# Altium footprint library MB1137.PcbLib: 43 footprints (part 2 of 3)
Each footprint in its own frame and in the unit in brackets; x right, y up, seen from the top. Pads: shape width x height; smd on the part's side, far side on the other; paste and mask are expansions set on the pad; w line width, h text height; cw(c..) or ccw(c..) is an arc to the next point about the centre after c.
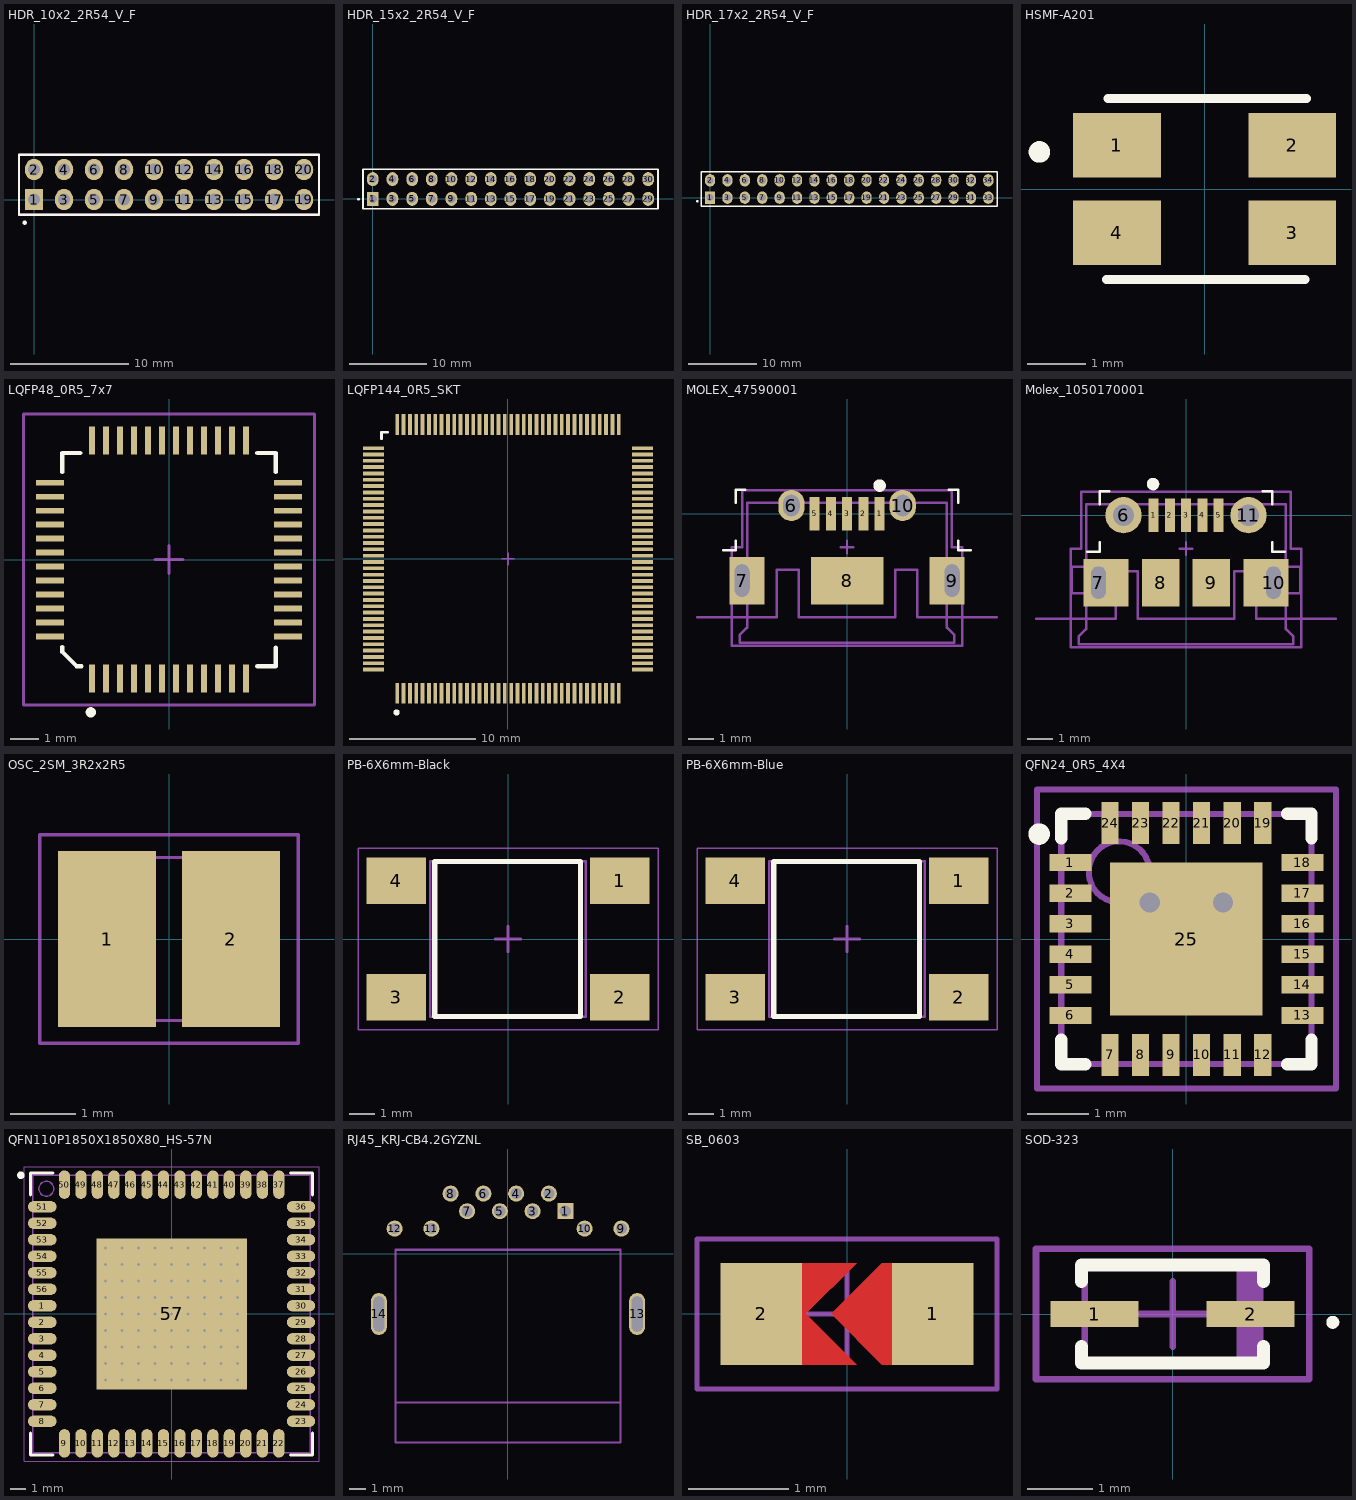
[diagram p1: the footprints below, top view; thin cyan lines are the x and y axes]

## HDR_10x2_2R54_V_F [mm] "Female Header, Pitch 2.54mm, 2x8 Position, Mated Height 6mm, Tail Length 3mm"
height 6
pads (20):
  rect 1.5x1.8 hole 1.02: 1(0,0)
  oval 1.5x1.8 hole 1.02: 2(0,2.54) 3(2.54,0) 4(2.54,2.54) 5(5.08,0) 6(5.08,2.54) 7(7.62,0) 8(7.62,2.54) 9(10.16,0) 10(10.16,2.54) 11(12.7,0) 12(12.7,2.54) 13(15.24,0) 14(15.24,2.54) 15(17.78,0) 16(17.78,2.54) 17(20.32,0) 18(20.32,2.54) 19(22.86,0) 20(22.86,2.54)
Top Overlay:
  circle w0.25: c-0.787,-1.96 r0.059
  lines w0.2: -1.27,-1.27 -1.27,3.81 24.13,3.81 24.13,-1.27 -1.27,-1.27
Mechanical 7:
  circle w0.2: c20.32,0 r0.684
  circle w0.2: c20.32,2.54 r0.684
  circle w0.2: c15.24,2.54 r0.684
  circle w0.2: c17.78,2.54 r0.684
  circle w0.2: c17.78,0 r0.684
  circle w0.2: c15.24,0 r0.684
  circle w0.2: c2.54,0 r0.684
  circle w0.2: c5.08,0 r0.684
  circle w0.2: c7.62,0 r0.684
  circle w0.2: c10.16,0 r0.684
  circle w0.2: c12.7,0 r0.684
  circle w0.2: c12.7,2.54 r0.684
  circle w0.2: c10.16,2.54 r0.684
  circle w0.2: c7.62,2.54 r0.684
  circle w0.2: c5.08,2.54 r0.684
  circle w0.2: c2.54,2.54 r0.684
  circle w0.2: c0,2.54 r0.684
  circle w0.2: c22.86,2.54 r0.684
  circle w0.2: c22.86,0 r0.684
  lines w0.2: -1.27,-1.27 -1.27,3.81 24.13,3.81 24.13,-1.27 -1.27,-1.27 ; -0.635,-0.635 -0.635,0.635 0.635,0.635 0.635,-0.635 -0.635,-0.635
3D body: height 8.64, standoff 0, extent 19.052,-1.27 21.592,1.27
3D body: height 2.54, standoff -10, extent 19.971,-0.349 20.669,0.349
3D body: height 8.64, standoff 0, extent 19.052,1.27 21.592,3.81
3D body: height 2.54, standoff -10, extent 19.971,2.191 20.669,2.889
3D body: height 2.54, standoff -10, extent 14.891,-0.349 15.589,0.349
3D body: height 8.64, standoff 0, extent 13.972,-1.27 16.512,1.27
3D body: height 2.54, standoff -10, extent 14.891,2.191 15.589,2.889
3D body: height 8.64, standoff 0, extent 13.972,1.27 16.512,3.81
3D body: height 2.54, standoff -10, extent 17.431,2.191 18.129,2.889
3D body: height 8.64, standoff 0, extent 16.512,1.27 19.052,3.81
3D body: height 2.54, standoff -10, extent 17.431,-0.349 18.129,0.349
3D body: height 8.64, standoff 0, extent 16.512,-1.27 19.052,1.27
3D body: height 8.64, standoff 0, extent 11.432,-1.27 13.972,1.27
3D body: height 2.54, standoff -10, extent 12.351,-0.349 13.049,0.349
3D body: height 8.64, standoff 0, extent 11.432,1.27 13.972,3.81
3D body: height 2.54, standoff -10, extent 12.351,2.191 13.049,2.889
3D body: height 8.64, standoff 0, extent 8.892,1.27 11.432,3.81
3D body: height 2.54, standoff -10, extent 9.811,2.191 10.509,2.889
3D body: height 8.64, standoff 0, extent 8.892,-1.27 11.432,1.27
3D body: height 2.54, standoff -10, extent 9.811,-0.349 10.509,0.349
3D body: height 8.64, standoff 0, extent 6.352,-1.27 8.892,1.27
3D body: height 2.54, standoff -10, extent 7.271,-0.349 7.969,0.349
3D body: height 8.64, standoff 0, extent 6.352,1.27 8.892,3.81
3D body: height 2.54, standoff -10, extent 7.271,2.191 7.969,2.889
3D body: height 8.64, standoff 0, extent 3.812,-1.27 6.352,1.27
3D body: height 2.54, standoff -10, extent 4.731,-0.349 5.429,0.349
3D body: height 8.64, standoff 0, extent 3.812,1.27 6.352,3.81
3D body: height 2.54, standoff -10, extent 4.731,2.191 5.429,2.889
3D body: height 8.64, standoff 0, extent 1.272,-1.27 3.812,1.27
3D body: height 2.54, standoff -10, extent 2.191,-0.349 2.889,0.349
3D body: height 8.64, standoff 0, extent 1.272,1.27 3.812,3.81
3D body: height 2.54, standoff -10, extent 2.191,2.191 2.889,2.889
3D body: height 8.64, standoff 0, extent -1.268,1.27 1.272,3.81
3D body: height 2.54, standoff -10, extent -0.349,2.191 0.349,2.889
3D body: height 8.64, standoff 0, extent -1.268,-1.27 1.272,1.27
3D body: height 2.54, standoff -10, extent -0.349,-0.349 0.349,0.349
3D body: height 2.54, standoff -10, extent 22.511,2.191 23.209,2.889
3D body: height 8.64, standoff 0, extent 21.592,1.27 24.132,3.81
3D body: height 2.54, standoff -10, extent 22.511,-0.349 23.209,0.349
3D body: height 8.64, standoff 0, extent 21.592,-1.27 24.132,1.27

## HDR_15x2_2R54_V_F [mm] "Female Header, Pitch 2.54mm, 2x15 Position, Mated Height 6mm, Tail Length 3mm"
height 6
pads (30):
  rect 1.5x1.8 hole 1.02: 1(0,0)
  oval 1.5x1.8 hole 1.02: 2(0,2.54) 3(2.54,0) 4(2.54,2.54) 5(5.08,0) 6(5.08,2.54) 7(7.62,0) 8(7.62,2.54) 9(10.16,0) 10(10.16,2.54) 11(12.7,0) 12(12.7,2.54) 13(15.24,0) 14(15.24,2.54) 15(17.78,0) 16(17.78,2.54) 17(20.32,0) 18(20.32,2.54) 19(22.86,0) 20(22.86,2.54) 21(25.4,0) 22(25.4,2.54) 23(27.94,0) 24(27.94,2.54) 25(30.48,0) 26(30.48,2.54) 27(33.02,0) 28(33.02,2.54) 29(35.56,0) 30(35.56,2.54)
Top Overlay:
  circle w0.25: c-1.854,-0.059 r0.059
  lines w0.2: -1.27,-1.27 -1.27,3.81 36.83,3.81 36.83,-1.27 -1.27,-1.27
3D body: height 8.64, standoff 0, extent 34.292,-1.27 36.832,1.27
3D body: height 2.54, standoff -10, extent 35.211,-0.349 35.909,0.349
3D body: height 8.64, standoff 0, extent 34.292,1.27 36.832,3.81
3D body: height 2.54, standoff -10, extent 35.211,2.191 35.909,2.889
3D body: height 2.54, standoff -10, extent 25.051,2.191 25.749,2.889
3D body: height 8.64, standoff 0, extent 24.132,1.27 26.672,3.81
3D body: height 2.54, standoff -10, extent 25.051,-0.349 25.749,0.349
3D body: height 8.64, standoff 0, extent 24.132,-1.27 26.672,1.27
3D body: height 8.64, standoff 0, extent 29.212,-1.27 31.752,1.27
3D body: height 2.54, standoff -10, extent 30.131,-0.349 30.829,0.349
3D body: height 8.64, standoff 0, extent 29.212,1.27 31.752,3.81
3D body: height 2.54, standoff -10, extent 30.131,2.191 30.829,2.889
3D body: height 8.64, standoff 0, extent 26.672,1.27 29.212,3.81
3D body: height 2.54, standoff -10, extent 27.591,2.191 28.289,2.889
3D body: height 8.64, standoff 0, extent 26.672,-1.27 29.212,1.27
3D body: height 2.54, standoff -10, extent 27.591,-0.349 28.289,0.349
3D body: height 2.54, standoff -10, extent 32.671,2.191 33.369,2.889
3D body: height 8.64, standoff 0, extent 31.752,1.27 34.292,3.81
3D body: height 2.54, standoff -10, extent 32.671,-0.349 33.369,0.349
3D body: height 8.64, standoff 0, extent 31.752,-1.27 34.292,1.27
3D body: height 8.64, standoff 0, extent 19.052,-1.27 21.592,1.27
3D body: height 2.54, standoff -10, extent 19.971,-0.349 20.669,0.349
3D body: height 8.64, standoff 0, extent 19.052,1.27 21.592,3.81
3D body: height 2.54, standoff -10, extent 19.971,2.191 20.669,2.889
3D body: height 2.54, standoff -10, extent 14.891,-0.349 15.589,0.349
3D body: height 8.64, standoff 0, extent 13.972,-1.27 16.512,1.27
3D body: height 2.54, standoff -10, extent 14.891,2.191 15.589,2.889
3D body: height 8.64, standoff 0, extent 13.972,1.27 16.512,3.81
3D body: height 2.54, standoff -10, extent 17.431,2.191 18.129,2.889
3D body: height 8.64, standoff 0, extent 16.512,1.27 19.052,3.81
3D body: height 2.54, standoff -10, extent 17.431,-0.349 18.129,0.349
3D body: height 8.64, standoff 0, extent 16.512,-1.27 19.052,1.27
3D body: height 8.64, standoff 0, extent 11.432,-1.27 13.972,1.27
3D body: height 2.54, standoff -10, extent 12.351,-0.349 13.049,0.349
3D body: height 8.64, standoff 0, extent 11.432,1.27 13.972,3.81
3D body: height 2.54, standoff -10, extent 12.351,2.191 13.049,2.889
3D body: height 8.64, standoff 0, extent 8.892,1.27 11.432,3.81
3D body: height 2.54, standoff -10, extent 9.811,2.191 10.509,2.889
3D body: height 8.64, standoff 0, extent 8.892,-1.27 11.432,1.27
3D body: height 2.54, standoff -10, extent 9.811,-0.349 10.509,0.349
3D body: height 8.64, standoff 0, extent 6.352,-1.27 8.892,1.27
3D body: height 2.54, standoff -10, extent 7.271,-0.349 7.969,0.349
3D body: height 8.64, standoff 0, extent 6.352,1.27 8.892,3.81
3D body: height 2.54, standoff -10, extent 7.271,2.191 7.969,2.889
3D body: height 8.64, standoff 0, extent 3.812,-1.27 6.352,1.27
3D body: height 2.54, standoff -10, extent 4.731,-0.349 5.429,0.349
3D body: height 8.64, standoff 0, extent 3.812,1.27 6.352,3.81
3D body: height 2.54, standoff -10, extent 4.731,2.191 5.429,2.889
3D body: height 8.64, standoff 0, extent 1.272,-1.27 3.812,1.27
3D body: height 2.54, standoff -10, extent 2.191,-0.349 2.889,0.349
3D body: height 8.64, standoff 0, extent 1.272,1.27 3.812,3.81
3D body: height 2.54, standoff -10, extent 2.191,2.191 2.889,2.889
3D body: height 8.64, standoff 0, extent -1.268,1.27 1.272,3.81
3D body: height 2.54, standoff -10, extent -0.349,2.191 0.349,2.889
3D body: height 8.64, standoff 0, extent -1.268,-1.27 1.272,1.27
3D body: height 2.54, standoff -10, extent -0.349,-0.349 0.349,0.349
3D body: height 2.54, standoff -10, extent 22.511,2.191 23.209,2.889
3D body: height 8.64, standoff 0, extent 21.592,1.27 24.132,3.81
3D body: height 2.54, standoff -10, extent 22.511,-0.349 23.209,0.349
3D body: height 8.64, standoff 0, extent 21.592,-1.27 24.132,1.27

## HDR_17x2_2R54_V_F [mm] "Female Header, Pitch 2.54mm, 2x17 Position, Mated Height 6mm, Tail Length 3mm"
height 6
pads (34):
  rect 1.5x1.8 hole 1.02: 1(0,0)
  oval 1.5x1.8 hole 1.02: 2(0,2.54) 3(2.54,0) 4(2.54,2.54) 5(5.08,0) 6(5.08,2.54) 7(7.62,0) 8(7.62,2.54) 9(10.16,0) 10(10.16,2.54) 11(12.7,0) 12(12.7,2.54) 13(15.24,0) 14(15.24,2.54) 15(17.78,0) 16(17.78,2.54) 17(20.32,0) 18(20.32,2.54) 19(22.86,0) 20(22.86,2.54) 21(25.4,0) 22(25.4,2.54) 23(27.94,0) 24(27.94,2.54) 25(30.48,0) 26(30.48,2.54) 27(33.02,0) 28(33.02,2.54) 29(35.56,0) 30(35.56,2.54) 31(38.1,0) 32(38.1,2.54) 33(40.64,0) 34(40.64,2.54)
Top Overlay:
  circle w0.25: c-1.854,-0.516 r0.059
  lines w0.2: -1.27,-1.27 -1.27,3.81 41.91,3.81 41.91,-1.27 -1.27,-1.27
3D body: height 8.64, standoff 0, extent 34.292,-1.27 36.832,1.27
3D body: height 2.54, standoff -10, extent 35.211,-0.349 35.909,0.349
3D body: height 8.64, standoff 0, extent 34.292,1.27 36.832,3.81
3D body: height 2.54, standoff -10, extent 35.211,2.191 35.909,2.889
3D body: height 2.54, standoff -10, extent 25.051,2.191 25.749,2.889
3D body: height 8.64, standoff 0, extent 24.132,1.27 26.672,3.81
3D body: height 2.54, standoff -10, extent 25.051,-0.349 25.749,0.349
3D body: height 8.64, standoff 0, extent 24.132,-1.27 26.672,1.27
3D body: height 8.64, standoff 0, extent 29.212,-1.27 31.752,1.27
3D body: height 2.54, standoff -10, extent 30.131,-0.349 30.829,0.349
3D body: height 8.64, standoff 0, extent 29.212,1.27 31.752,3.81
3D body: height 2.54, standoff -10, extent 30.131,2.191 30.829,2.889
3D body: height 8.64, standoff 0, extent 26.672,1.27 29.212,3.81
3D body: height 2.54, standoff -10, extent 27.591,2.191 28.289,2.889
3D body: height 8.64, standoff 0, extent 26.672,-1.27 29.212,1.27
3D body: height 2.54, standoff -10, extent 27.591,-0.349 28.289,0.349
3D body: height 2.54, standoff -10, extent 32.671,2.191 33.369,2.889
3D body: height 8.64, standoff 0, extent 31.752,1.27 34.292,3.81
3D body: height 2.54, standoff -10, extent 32.671,-0.349 33.369,0.349
3D body: height 8.64, standoff 0, extent 31.752,-1.27 34.292,1.27
3D body: height 8.64, standoff 0, extent 19.052,-1.27 21.592,1.27
3D body: height 2.54, standoff -10, extent 19.971,-0.349 20.669,0.349
3D body: height 8.64, standoff 0, extent 19.052,1.27 21.592,3.81
3D body: height 2.54, standoff -10, extent 19.971,2.191 20.669,2.889
3D body: height 2.54, standoff -10, extent 14.891,-0.349 15.589,0.349
3D body: height 8.64, standoff 0, extent 13.972,-1.27 16.512,1.27
3D body: height 2.54, standoff -10, extent 14.891,2.191 15.589,2.889
3D body: height 8.64, standoff 0, extent 13.972,1.27 16.512,3.81
3D body: height 2.54, standoff -10, extent 17.431,2.191 18.129,2.889
3D body: height 8.64, standoff 0, extent 16.512,1.27 19.052,3.81
3D body: height 2.54, standoff -10, extent 17.431,-0.349 18.129,0.349
3D body: height 8.64, standoff 0, extent 16.512,-1.27 19.052,1.27
3D body: height 8.64, standoff 0, extent 11.432,-1.27 13.972,1.27
3D body: height 2.54, standoff -10, extent 12.351,-0.349 13.049,0.349
3D body: height 8.64, standoff 0, extent 11.432,1.27 13.972,3.81
3D body: height 2.54, standoff -10, extent 12.351,2.191 13.049,2.889
3D body: height 8.64, standoff 0, extent 8.892,1.27 11.432,3.81
3D body: height 2.54, standoff -10, extent 9.811,2.191 10.509,2.889
3D body: height 8.64, standoff 0, extent 8.892,-1.27 11.432,1.27
3D body: height 2.54, standoff -10, extent 9.811,-0.349 10.509,0.349
3D body: height 8.64, standoff 0, extent 6.352,-1.27 8.892,1.27
3D body: height 2.54, standoff -10, extent 7.271,-0.349 7.969,0.349
3D body: height 8.64, standoff 0, extent 6.352,1.27 8.892,3.81
3D body: height 2.54, standoff -10, extent 7.271,2.191 7.969,2.889
3D body: height 8.64, standoff 0, extent 3.812,-1.27 6.352,1.27
3D body: height 2.54, standoff -10, extent 4.731,-0.349 5.429,0.349
3D body: height 8.64, standoff 0, extent 3.812,1.27 6.352,3.81
3D body: height 2.54, standoff -10, extent 4.731,2.191 5.429,2.889
3D body: height 8.64, standoff 0, extent 1.272,-1.27 3.812,1.27
3D body: height 2.54, standoff -10, extent 2.191,-0.349 2.889,0.349
3D body: height 8.64, standoff 0, extent 1.272,1.27 3.812,3.81
3D body: height 2.54, standoff -10, extent 2.191,2.191 2.889,2.889
3D body: height 8.64, standoff 0, extent -1.268,1.27 1.272,3.81
3D body: height 2.54, standoff -10, extent -0.349,2.191 0.349,2.889
3D body: height 8.64, standoff 0, extent -1.268,-1.27 1.272,1.27
3D body: height 2.54, standoff -10, extent -0.349,-0.349 0.349,0.349
3D body: height 2.54, standoff -10, extent 22.511,2.191 23.209,2.889
3D body: height 8.64, standoff 0, extent 21.592,1.27 24.132,3.81
3D body: height 2.54, standoff -10, extent 22.511,-0.349 23.209,0.349
3D body: height 8.64, standoff 0, extent 21.592,-1.27 24.132,1.27
3D body: height 8.64, standoff 0, extent 36.832,-1.27 39.372,1.27
3D body: height 2.54, standoff -10, extent 37.751,-0.349 38.449,0.349
3D body: height 8.64, standoff 0, extent 36.832,1.27 39.372,3.81
3D body: height 2.54, standoff -10, extent 37.751,2.191 38.449,2.889
3D body: height 2.54, standoff -10, extent 40.291,2.191 40.989,2.889
3D body: height 8.64, standoff 0, extent 39.372,1.27 41.912,3.81
3D body: height 2.54, standoff -10, extent 40.291,-0.349 40.989,0.349
3D body: height 8.64, standoff 0, extent 39.372,-1.27 41.912,1.27

## HSMF-A201 [mm] "LED"
height 1.2
pads (4):
  rect 1.5x1.1 smd: 1(-1.5,0.75) 2(1.5,0.75) 3(1.5,-0.75) 4(-1.5,-0.75)
Top Overlay:
  circle w0.25: c-2.827,0.635 r0.059
  lines w0.152: -1.676,-1.549 1.724,-1.549 ; -1.651,1.549 1.749,1.549
3D body: height 1.2, standoff 0.1, extent -1.6,-1.4 1.6,1.4

## LQFP48_0R5_7x7 [mm] "Low & medium-density value line, advanced ARM-based 32-bit MCU"
height 1.6
pads (48):
  rect 0.2x1 smd: 1(-2.75,-4.25) 2(-2.25,-4.25) 3(-1.75,-4.25) 4(-1.25,-4.25) 5(-0.75,-4.25) 6(-0.25,-4.25) 7(0.25,-4.25) 8(0.75,-4.25) 9(1.25,-4.25) 10(1.75,-4.25) 11(2.25,-4.25) 12(2.75,-4.25) 25(2.75,4.25) 26(2.25,4.25) 27(1.75,4.25) 28(1.25,4.25) 29(0.75,4.25) 30(0.25,4.25) 31(-0.25,4.25) 32(-0.75,4.25) 33(-1.25,4.25) 34(-1.75,4.25) 35(-2.25,4.25) 36(-2.75,4.25)
  rect 1x0.2 smd: 13(4.25,-2.75) 14(4.25,-2.25) 15(4.25,-1.75) 16(4.25,-1.25) 17(4.25,-0.75) 18(4.25,-0.25) 19(4.25,0.25) 20(4.25,0.75) 21(4.25,1.25) 22(4.25,1.75) 23(4.25,2.25) 24(4.25,2.75) 37(-4.25,2.75) 38(-4.25,2.25) 39(-4.25,1.75) 40(-4.25,1.25) 41(-4.25,0.75) 42(-4.25,0.25) 43(-4.25,-0.25) 44(-4.25,-0.75) 45(-4.25,-1.25) 46(-4.25,-1.75) 47(-4.25,-2.25) 48(-4.25,-2.75)
Top Overlay:
  circle w0.25: c-2.792,-5.461 r0.059
  lines w0.152: -3.81,-3.124 -3.81,-3.302 -3.302,-3.81 -3.124,-3.81 ; -3.81,3.124 -3.81,3.81 -3.175,3.81 ; 3.15,-3.81 3.81,-3.81 3.81,-3.15 ; 3.15,3.81 3.81,3.81 3.81,3.124
Mechanical 15:
  lines w0.1: -0.5,0 0.5,0 ; 0,-0.5 0,0.5 ; -5.2,-5.2 -5.2,5.2 5.2,5.2 5.2,-5.2 -5.2,-5.2
3D body: height 1.6, standoff 0.15, extent -3.5,-3.5 3.5,3.5

## LQFP144_0R5_SKT [mm] "32-bit MCU ARM-based Cortex-M3 20 X 20mm, 0.5mm Pitch, 1.6mm Max thickness"
height 1.6
pads (144):
  rect 0.3x1.65 smd: 1(-8.75,-10.625) 2(-8.25,-10.625) 3(-7.75,-10.625) 4(-7.25,-10.625) 5(-6.75,-10.625) 6(-6.25,-10.625) 7(-5.75,-10.625) 8(-5.25,-10.625) 9(-4.75,-10.625) 10(-4.25,-10.625) 11(-3.75,-10.625) 12(-3.25,-10.625) 13(-2.75,-10.625) 14(-2.25,-10.625) 15(-1.75,-10.625) 16(-1.25,-10.625) 17(-0.75,-10.625) 18(-0.25,-10.625) 19(0.25,-10.625) 20(0.75,-10.625) 21(1.25,-10.625) 22(1.75,-10.625) 23(2.25,-10.625) 24(2.75,-10.625) 25(3.25,-10.625) 26(3.75,-10.625) 27(4.25,-10.625) 28(4.75,-10.625) 29(5.25,-10.625) 30(5.75,-10.625) 31(6.25,-10.625) 32(6.75,-10.625) 33(7.25,-10.625) 34(7.75,-10.625) 35(8.25,-10.625) 36(8.75,-10.625) 73(8.75,10.625) 74(8.25,10.625) 75(7.75,10.625) 76(7.25,10.625) 77(6.75,10.625) 78(6.25,10.625) 79(5.75,10.625) 80(5.25,10.625) 81(4.75,10.625) 82(4.25,10.625) 83(3.75,10.625) 84(3.25,10.625) 85(2.75,10.625) 86(2.25,10.625) 87(1.75,10.625) 88(1.25,10.625) 89(0.75,10.625) 90(0.25,10.625) 91(-0.25,10.625) 92(-0.75,10.625) 93(-1.25,10.625) 94(-1.75,10.625) 95(-2.25,10.625) 96(-2.75,10.625) 97(-3.25,10.625) 98(-3.75,10.625) 99(-4.25,10.625) 100(-4.75,10.625) 101(-5.25,10.625) 102(-5.75,10.625) 103(-6.25,10.625) 104(-6.75,10.625) 105(-7.25,10.625) 106(-7.75,10.625) 107(-8.25,10.625) 108(-8.75,10.625)
  rect 1.65x0.3 smd: 37(10.625,-8.75) 38(10.625,-8.25) 39(10.625,-7.75) 40(10.625,-7.25) 41(10.625,-6.75) 42(10.625,-6.25) 43(10.625,-5.75) 44(10.625,-5.25) 45(10.625,-4.75) 46(10.625,-4.25) 47(10.625,-3.75) 48(10.625,-3.25) 49(10.625,-2.75) 50(10.625,-2.25) 51(10.625,-1.75) 52(10.625,-1.25) 53(10.625,-0.75) 54(10.625,-0.25) 55(10.625,0.25) 56(10.625,0.75) 57(10.625,1.25) 58(10.625,1.75) 59(10.625,2.25) 60(10.625,2.75) 61(10.625,3.25) 62(10.625,3.75) 63(10.625,4.25) 64(10.625,4.75) 65(10.625,5.25) 66(10.625,5.75) 67(10.625,6.25) 68(10.625,6.75) 69(10.625,7.25) 70(10.625,7.75) 71(10.625,8.25) 72(10.625,8.75) 109(-10.625,8.75) 110(-10.625,8.25) 111(-10.625,7.75) 112(-10.625,7.25) 113(-10.625,6.75) 114(-10.625,6.25) 115(-10.625,5.75) 116(-10.625,5.25) 117(-10.625,4.75) 118(-10.625,4.25) 119(-10.625,3.75) 120(-10.625,3.25) 121(-10.625,2.75) 122(-10.625,2.25) 123(-10.625,1.75) 124(-10.625,1.25) 125(-10.625,0.75) 126(-10.625,0.25) 127(-10.625,-0.25) 128(-10.625,-0.75) 129(-10.625,-1.25) 130(-10.625,-1.75) 131(-10.625,-2.25) 132(-10.625,-2.75) 133(-10.625,-3.25) 134(-10.625,-3.75) 135(-10.625,-4.25) 136(-10.625,-4.75) 137(-10.625,-5.25) 138(-10.625,-5.75) 139(-10.625,-6.25) 140(-10.625,-6.75) 141(-10.625,-7.25) 142(-10.625,-7.75) 143(-10.625,-8.25) 144(-10.625,-8.75)
Top Overlay:
  circle w0.25: c-8.812,-12.141 r0.125
  lines w0.2: -10,9.5 -10,10 -9.5,10
Mechanical 15:
  lines w0.1: -0.5,0 0.5,0 ; 0,-0.5 0,0.5

## MOLEX_47590001 [mm] "USB Micro-B Connector"
height 2.667
pads (10):
  rect 0.4x1.35 smd: 1(1.3,0) 2(0.65,0) 3(0,0) 4(-0.65,0) 5(-1.3,0)
  oval 1.05x1.25 hole 0.65 slot 0.85 at 90 deg: 6(-2.225,0.325) 10(2.225,0.325)
  rect 1.4x1.9 hole 0.6 slot 1.3 at 90 deg copper offset 0.2,0: 7(-4.2,-2.675)
  rect 2.9x1.9 smd: 8(0,-2.675)
  rect 1.4x1.9 hole 0.6 slot 1.3 at 90 deg copper offset -0.2,0: 9(4.2,-2.675)
Top Overlay:
  circle w0.25: c1.304,1.122 r0.125
  lines w0.1: -4.953,-1.465 -4.445,-1.465 -4.445,-1.084 ; -4.445,0.44 -4.445,0.948 -4.064,0.948 ; 4.064,0.948 4.445,0.948 4.445,0.44 ; 4.445,-1.084 4.445,-1.465 4.953,-1.465
Mechanical 1:
  lines w0.1: -6,-4.137 -2.82,-4.137 -2.82,-2.238 -1.92,-2.238 -1.92,-4.137 0,-4.137 1.92,-4.137 1.92,-2.238 2.82,-2.238 2.82,-4.137 6,-4.137
  text "Board edge" at 5.588,-4.005 h0.2
Mechanical 13:
  lines w0.1: -4,0.442 4,0.442 ; -4,0.442 4,0.442 ; -4,0.442 -4,-2.058 -4.572,-2.058 -4.572,-3.116 -4,-3.116 -4,-4.558 -4.3,-4.858 -4.3,-5.158 4.3,-5.158 4.3,-4.858 4,-4.558 4,-3.116 4.572,-3.116 4.572,-2.058 4,-2.058 4,0.442
Mechanical 15:
  lines w0.1: -4.2,0.937 4.2,0.937 ; -4.2,0.94 -4.2,-1.338 -4.6,-1.338 -4.6,-4.137 -4.6,-5.275 4.6,-5.275 4.6,-4.137 4.6,-1.338 4.2,-1.338 4.2,0.94 ; -0.254,-1.338 0.254,-1.338 ; 0,-1.592 0,-1.084
3D body "ZX62R-B-5P.stp": height 2.71, standoff -0.23, extent -4.4,-5.291 4.4,0.44

## Molex_1050170001 [mm] "USB Micro-B Connector"
height 2.667
pads (11):
  rect 0.4x1.35 smd: 1(-1.3,0) 2(-0.65,0) 3(0,0) 4(0.65,0) 5(1.3,0)
  round 1.45 hole 0.85: 6(-2.5,0) 11(2.5,0)
  rect 1.8x1.9 hole 0.6 slot 1.3 at 90 deg copper offset 0.3,0: 7(-3.5,-2.7)
  rect 1.5x1.9 smd: 8(-1,-2.7) 9(1,-2.7)
  rect 1.8x1.9 hole 0.6 slot 1.3 at 90 deg copper offset -0.3,0: 10(3.5,-2.7)
Top Overlay:
  circle w0.25: c-1.319,1.245 r0.125
  lines w0.1: -3.953,-1.465 -3.445,-1.465 -3.445,-1.084 ; -3.445,0.44 -3.445,0.948 -3.064,0.948 ; 3.064,0.948 3.445,0.948 3.445,0.44 ; 3.445,-1.084 3.445,-1.465 3.953,-1.465
Mechanical 1:
  lines w0.1: -6,-4.137 -2.82,-4.137 -2.82,-2.238 -1.92,-2.238 -1.92,-4.137 0,-4.137 1.92,-4.137 1.92,-2.238 2.82,-2.238 2.82,-4.137 6,-4.137
  text "Board edge" at 5.588,-4.005 h0.2
Mechanical 13:
  lines w0.1: -4,0.442 -4,-2.058 -4.572,-2.058 -4.572,-3.116 -4,-3.116 -4,-4.558 -4.3,-4.858 -4.3,-5.158 4.3,-5.158 4.3,-4.858 4,-4.558 4,-3.116 4.572,-3.116 4.572,-2.058 4,-2.058 4,0.442 ; -4,0.442 4,0.442 ; -4,0.442 4,0.442
Mechanical 15:
  lines w0.1: -4.2,0.937 4.2,0.937 ; -4.2,0.94 -4.2,-1.338 -4.6,-1.338 -4.6,-4.137 -4.6,-5.275 4.6,-5.275 4.6,-4.137 4.6,-1.338 4.2,-1.338 4.2,0.94 ; -0.254,-1.338 0.254,-1.338 ; 0,-1.592 0,-1.084
3D body "1050170001.stp": height 2.58, standoff -0.72, extent -4.1,-5.207 4.1,0.193

## OSC_2SM_3R2x2R5 [mm] "Crystal 8M Hz 3.2x2.5mm SMD"
pads (2):
  rect 1.5x2.7 smd: 1(-0.95,0) 2(0.95,0)
Mechanical 13:
  lines w0.051: -1.6,-1.25 1.6,-1.25 1.6,1.25 -1.6,1.25 -1.6,-1.25
Mechanical 15:
  lines w0.051: -1.981,-1.6 -1.981,1.6 1.981,1.6 1.981,-1.6 -1.981,-1.6
3D body: height 1, standoff 0, extent -1.6,-1.25 1.6,1.25

## PB-6X6mm-Black [mm] "Surface Mounting Type Tact Switch, 4-Leads, Body 6x6mm, Height 4.5mm Black"
height 4.5
pads (4):
  rect 2.3x1.8 smd: 1(4.325,2.25) 2(4.325,-2.25) 3(-4.325,-2.25) 4(-4.325,2.25)
Top Overlay:
  lines w0.2: -2.831,-3 2.808,-3 2.808,3 -2.831,3 -2.831,-3
Mechanical 13:
  lines w0.1: -3,-3 -3,3 3,3 3,-3 -3,-3
Mechanical 15:
  lines w0.05: -5.8,-3.5 -5.8,3.5 5.8,3.5 5.8,-3.5 -5.8,-3.5
  lines w0.1: -0.5,0 0.5,0 ; 0,-0.5 0,0.5
3D body: height 3.9, standoff 2.3, extent 1.359,-2.956 2.95,-1.362
3D body: height 3.9, standoff 2.3, extent -2.956,-2.951 -1.362,-1.359
3D body: height 3.9, standoff 2.3, extent 1.363,1.359 2.956,2.95
3D body: height 3.9, standoff 2.3, extent -2.951,1.363 -1.359,2.956
3D body: height 10.5, standoff 3.5, extent -1.736,-1.746 1.75,1.747
3D body: height 3.5, standoff 0, extent -3,-3 3,3

## PB-6X6mm-Blue [mm] "Surface Mounting Type Tact Switch, 4-Leads, Body 6x6mm, Height 4.5mm,Blue"
height 4.5
pads (4):
  rect 2.3x1.8 smd: 1(4.325,2.25) 2(4.325,-2.25) 3(-4.325,-2.25) 4(-4.325,2.25)
Top Overlay:
  lines w0.2: -2.831,-3 2.808,-3 2.808,3 -2.831,3 -2.831,-3
Mechanical 13:
  lines w0.1: -3,-3 -3,3 3,3 3,-3 -3,-3
Mechanical 15:
  lines w0.05: -5.8,-3.5 5.8,-3.5 5.8,3.5 -5.8,3.5 -5.8,-3.5
  lines w0.1: -0.5,0 0.5,0 ; 0,-0.5 0,0.5
3D body: height 3.9, standoff 2.3, extent 1.359,-2.956 2.95,-1.362
3D body: height 3.9, standoff 2.3, extent -2.956,-2.951 -1.362,-1.359
3D body: height 3.9, standoff 2.3, extent 1.363,1.359 2.956,2.95
3D body: height 3.9, standoff 2.3, extent -2.951,1.363 -1.359,2.956
3D body: height 10.5, standoff 3.5, extent -1.736,-1.746 1.75,1.747
3D body: height 3.5, standoff 0, extent -3,-3 3,3

## QFN24_0R5_4X4 [mm] "SQFN 24 Pins, Pitch 0.5mm, 4mmx4mm"
height 1
pads (25):
  rect 0.69x0.28 smd: 1(-1.9,1.25) 2(-1.9,0.75) 3(-1.9,0.25) 4(-1.9,-0.25) 5(-1.9,-0.75) 6(-1.9,-1.25) 13(1.9,-1.25) 14(1.9,-0.75) 15(1.9,-0.25) 16(1.9,0.25) 17(1.9,0.75) 18(1.9,1.25)
  rect 0.28x0.69 smd: 7(-1.25,-1.9) 8(-0.75,-1.9) 9(-0.25,-1.9) 10(0.25,-1.9) 11(0.75,-1.9) 12(1.25,-1.9) 19(1.25,1.9) 20(0.75,1.9) 21(0.25,1.9) 22(-0.25,1.9) 23(-0.75,1.9) 24(-1.25,1.9)
  rect 2.5x2.5 smd: 25(0,0)
via 0.6,0.6 diameter 0.66 hole 0.33
via -0.6,0.6 diameter 0.66 hole 0.33
Top Overlay:
  circle w0.25: c-2.413,1.719 r0.051
  lines w0.2: -2.05,-1.651 -2.05,-2.05 -1.651,-2.05 ; -2.05,1.651 -2.05,2.05 -1.651,2.05 ; 1.651,-2.05 2.05,-2.05 2.05,-1.651 ; 1.651,2.05 2.05,2.05 2.05,1.651
Mechanical 13:
  circle w0.1: c-1.1,1.1 r0.5
  lines w0.1: -2.05,-2.05 2.05,-2.05 2.05,2.05 -2.05,2.05 -2.05,-2.05
Mechanical 15:
  lines w0.1: -0.5,0 0.5,0 ; 0,-0.5 0,0.5 ; -2.45,-2.45 2.45,-2.45 2.45,2.45 -2.45,2.45 -2.45,-2.45
3D body: height 1, standoff 0.02, extent -2.05,-2.05 2.05,2.05

## QFN110P1850X1850X80_HS-57N [mm] "QFN, 56-Leads, Body 18.50x18.50mm, Pitch 1.10mm, Thermal Pad 10.05x10.05mm, IPC Medium Density"
height 0.8
pads (57):
  oval 1.9x0.75 smd: 1(-8.625,0.55) 2(-8.625,-0.55) 3(-8.625,-1.65) 4(-8.625,-2.75) 5(-8.625,-3.85) 6(-8.625,-4.95) 7(-8.625,-6.05) 8(-8.625,-7.15) 23(8.625,-7.15) 24(8.625,-6.05) 25(8.625,-4.95) 26(8.625,-3.85) 27(8.625,-2.75) 28(8.625,-1.65) 29(8.625,-0.55) 30(8.625,0.55) 31(8.625,1.65) 32(8.625,2.75) 33(8.625,3.85) 34(8.625,4.95) 35(8.625,6.05) 36(8.625,7.15) 51(-8.625,7.15) 52(-8.625,6.05) 53(-8.625,4.95) 54(-8.625,3.85) 55(-8.625,2.75) 56(-8.625,1.65)
  oval 0.75x1.9 smd: 9(-7.15,-8.625) 10(-6.05,-8.625) 11(-4.95,-8.625) 12(-3.85,-8.625) 13(-2.75,-8.625) 14(-1.65,-8.625) 15(-0.55,-8.625) 16(0.55,-8.625) 17(1.65,-8.625) 18(2.75,-8.625) 19(3.85,-8.625) 20(4.95,-8.625) 21(6.05,-8.625) 22(7.15,-8.625) 37(7.15,8.625) 38(6.05,8.625) 39(4.95,8.625) 40(3.85,8.625) 41(2.75,8.625) 42(1.65,8.625) 43(0.55,8.625) 44(-0.55,8.625) 45(-1.65,8.625) 46(-2.75,8.625) 47(-3.85,8.625) 48(-4.95,8.625) 49(-6.05,8.625) 50(-7.15,8.625)
  rect 10.05x10.05 smd: 57(0,0)
via -4.4,4.4 diameter 0.5 hole 0.2
via -3.3,4.4 diameter 0.5 hole 0.2
via -2.2,4.4 diameter 0.5 hole 0.2
via -1.1,4.4 diameter 0.5 hole 0.2
via 0,4.4 diameter 0.5 hole 0.2
via 1.1,4.4 diameter 0.5 hole 0.2
via 2.2,4.4 diameter 0.5 hole 0.2
via 3.3,4.4 diameter 0.5 hole 0.2
via 4.4,4.4 diameter 0.5 hole 0.2
via -4.4,3.3 diameter 0.5 hole 0.2
via -3.3,3.3 diameter 0.5 hole 0.2
via -2.2,3.3 diameter 0.5 hole 0.2
via -1.1,3.3 diameter 0.5 hole 0.2
via 0,3.3 diameter 0.5 hole 0.2
via 1.1,3.3 diameter 0.5 hole 0.2
via 2.2,3.3 diameter 0.5 hole 0.2
via 3.3,3.3 diameter 0.5 hole 0.2
via 4.4,3.3 diameter 0.5 hole 0.2
via -4.4,2.2 diameter 0.5 hole 0.2
via -3.3,2.2 diameter 0.5 hole 0.2
via -2.2,2.2 diameter 0.5 hole 0.2
via -1.1,2.2 diameter 0.5 hole 0.2
via 0,2.2 diameter 0.5 hole 0.2
via 1.1,2.2 diameter 0.5 hole 0.2
via 2.2,2.2 diameter 0.5 hole 0.2
via 3.3,2.2 diameter 0.5 hole 0.2
via 4.4,2.2 diameter 0.5 hole 0.2
via -4.4,1.1 diameter 0.5 hole 0.2
via -3.3,1.1 diameter 0.5 hole 0.2
via -2.2,1.1 diameter 0.5 hole 0.2
via -1.1,1.1 diameter 0.5 hole 0.2
via 0,1.1 diameter 0.5 hole 0.2
via 1.1,1.1 diameter 0.5 hole 0.2
via 2.2,1.1 diameter 0.5 hole 0.2
via 3.3,1.1 diameter 0.5 hole 0.2
via 4.4,1.1 diameter 0.5 hole 0.2
via -4.4,0 diameter 0.5 hole 0.2
via -3.3,0 diameter 0.5 hole 0.2
via -2.2,0 diameter 0.5 hole 0.2
via -1.1,0 diameter 0.5 hole 0.2
via 0,0 diameter 0.5 hole 0.2
via 1.1,0 diameter 0.5 hole 0.2
via 2.2,0 diameter 0.5 hole 0.2
via 3.3,0 diameter 0.5 hole 0.2
via 4.4,0 diameter 0.5 hole 0.2
via -4.4,-1.1 diameter 0.5 hole 0.2
via -3.3,-1.1 diameter 0.5 hole 0.2
via -2.2,-1.1 diameter 0.5 hole 0.2
via -1.1,-1.1 diameter 0.5 hole 0.2
via 0,-1.1 diameter 0.5 hole 0.2
via 1.1,-1.1 diameter 0.5 hole 0.2
via 2.2,-1.1 diameter 0.5 hole 0.2
via 3.3,-1.1 diameter 0.5 hole 0.2
via 4.4,-1.1 diameter 0.5 hole 0.2
via -4.4,-2.2 diameter 0.5 hole 0.2
via -3.3,-2.2 diameter 0.5 hole 0.2
via -2.2,-2.2 diameter 0.5 hole 0.2
via -1.1,-2.2 diameter 0.5 hole 0.2
via 0,-2.2 diameter 0.5 hole 0.2
via 1.1,-2.2 diameter 0.5 hole 0.2
via 2.2,-2.2 diameter 0.5 hole 0.2
via 3.3,-2.2 diameter 0.5 hole 0.2
via 4.4,-2.2 diameter 0.5 hole 0.2
via -4.4,-3.3 diameter 0.5 hole 0.2
via -3.3,-3.3 diameter 0.5 hole 0.2
via -2.2,-3.3 diameter 0.5 hole 0.2
via -1.1,-3.3 diameter 0.5 hole 0.2
via 0,-3.3 diameter 0.5 hole 0.2
via 1.1,-3.3 diameter 0.5 hole 0.2
via 2.2,-3.3 diameter 0.5 hole 0.2
via 3.3,-3.3 diameter 0.5 hole 0.2
via 4.4,-3.3 diameter 0.5 hole 0.2
via -4.4,-4.4 diameter 0.5 hole 0.2
via -3.3,-4.4 diameter 0.5 hole 0.2
via -2.2,-4.4 diameter 0.5 hole 0.2
via -1.1,-4.4 diameter 0.5 hole 0.2
via 0,-4.4 diameter 0.5 hole 0.2
via 1.1,-4.4 diameter 0.5 hole 0.2
via 2.2,-4.4 diameter 0.5 hole 0.2
via 3.3,-4.4 diameter 0.5 hole 0.2
via 4.4,-4.4 diameter 0.5 hole 0.2
Top Overlay:
  circle w0.25: c-10.05,9.25 r0.125
  lines w0.2: -9.4,-7.925 -9.4,-9.4 -7.925,-9.4 ; -9.4,7.925 -9.4,9.4 -7.925,9.4 ; 7.925,-9.4 9.4,-9.4 9.4,-7.925 ; 7.925,9.4 9.4,9.4 9.4,7.925
Assembly Top:
  circle w0.1: c-8.35,8.35 r0.5
  lines w0.1: -9.25,-9.25 -9.25,9.25 9.25,9.25 9.25,-9.25 -9.25,-9.25
Courtyard Top:
  lines w0.05: -9.825,-9.825 -9.825,9.825 9.825,9.825 9.825,-9.825 -9.825,-9.825
  lines w0.1: -0.5,0 0.5,0 ; 0,-0.5 0,0.5
3D body: height 0.8, standoff 0.01, extent -9.25,-9.25 9.25,9.25

## RJ45_KRJ-CB4.2GYZNL [mm] "RJ45  connector, right angle"
height 1
pads (14):
  rect 1x1 hole 0.7: 1(3.57,2.65)
  round 1 hole 0.7: 2(2.55,3.75) 3(1.53,2.65) 4(0.51,3.75) 5(-0.51,2.65) 6(-1.53,3.75) 7(-2.55,2.65) 8(-3.57,3.75) 9(7.06,1.57) 10(4.77,1.57) 11(-4.77,1.57) 12(-7.06,1.57)
  oval 1x2.6 hole 0.7 slot 2.2 at 90 deg: 13(8.04,-3.75) 14(-8.04,-3.75)
Mechanical 1:
  lines w0.127: -7,-9.25 7,-9.25 ; -7,-11.75 7,-11.75 7,0.25 -7,0.25 -7,-11.75
3D body: height 6.8, standoff -4.2, extent -8.103,-11.75 8.077,-9.25
3D body: height 6.8, standoff 0, extent -8.103,-9.25 8.077,3.465
3D body: height 4.2, standoff -4.2, extent -7,-9.25 7,0.25

## SB_0603 [mil] "Jumper"
height 39.37
pads (2):
  rect 32x40 smd: 1(33.75,0) 2(-33.75,0)
Top Layer:
  region: 23.75,20 13.75,20 -6.25,0 13.75,-20 23.75,-20
  region: -26.25,0 -16.25,0 3.75,20 -26.25,20
  region: -26.25,0 -16.25,0 3.75,-20 -26.25,-20
Top Paste:
  region: 23.75,20 13.75,20 -6.25,0 13.75,-20 23.75,-20
  region: -26.25,0 -16.25,0 3.75,20 -26.25,20
  region: -26.25,0 -16.25,0 3.75,-20 -26.25,-20
Top Solder:
  region: 23.75,24 13.75,24 -10.25,0 13.75,-24 23.75,-24
  region: -26.25,0 -12.25,0 11.75,24 -26.25,24
  region: -26.25,0 -12.25,0 11.75,-24 -26.25,-24
Mechanical 15:
  lines w1.97: -18.7,0 18.7,0 ; 0,-18.7 0,18.7 ; -59.06,-29.53 -59.06,29.53 59.06,29.53 59.06,-29.53 -59.06,-29.53

## SOD-323 [mm] "Diode"
height 1
pads (2):
  rect 1.35x0.4 smd: 1(-1.2,0) 2(1.2,0)
Top Overlay:
  circle w0.1: c2.463,-0.127 r0.05
  lines w0.2: -1.4,-0.5 -1.4,-0.75 1.4,-0.75 1.4,-0.5 ; -1.4,0.5 -1.4,0.75 1.4,0.75 1.4,0.5
Mechanical 13:
  region: 1.35,0.724 0.986,0.724 0.986,-0.726 1.35,-0.726
  lines w0.1: -1.35,-0.725 -1.35,0.725 1.35,0.725 1.35,-0.725 -1.35,-0.725
Mechanical 15:
  lines w0.1: -0.5,0 0.5,0 ; 0,-0.5 0,0.5 ; -2.1,-1 -2.1,1 2.1,1 2.1,-1 -2.1,-1
3D body: height 1.17, standoff 0, extent -1.35,-0.725 1.35,0.725